# Altium schematic symbol library RWSComponents.SchLib: 3 symbols
Pins are listed as number, name and electrical type; pins without a type are passive.

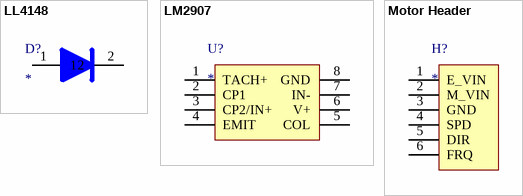
[diagram p0: symbols LL4148 to Motor Header]

## LL4148
designator D?
Signal Diode
footprint LL4148 (Signal Diode)
pins: 1, 2

## LM2907
designator U?
Freq to Voltage Converter
footprint LM2907 (Frequency to Voltage Converter)
pins: 1 TACH+, 2 CP1, 3 CP2/IN+, 4 EMIT, 5 COL, 6 V+, 7 IN-, 8 GND

## Motor Header
designator H?
footprint Motor Header
pins: 1 E_VIN, 2 M_VIN, 3 GND, 4 SPD, 5 DIR, 6 FRQ